# EAGLE library part SN74LVC3G34DCURG4 (library SamacSys_Parts)
Triple Buffer Gate Source: Datasheet <http://www.ti.com/lit/gpn/SN74LVC3G34>
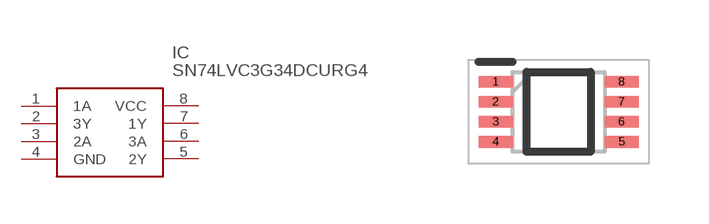
[diagram p74: symbol with the pads of SOP50P310X90-8N; footprint SOP50P310X90-8N]

Designator prefix IC

## SN74LVC3G34DCURG4 (DESCRIPTION: Triple Buffer Gate; HEIGHT: 0.9mm; MANUFACTURER_NAME: Texas Instruments; MANUFACTURER_PART_NUMBER: SN74LVC3G34DCURG4; MOUSER_PART_NUMBER: 595-S74LVC3G34DCURG4; MOUSER_PRICE-STOCK: https://www.mouser.co.uk/ProductDetail/Texas-Instruments/SN74LVC3G34DCURG4?qs=IUbkBnfnSQKa5HR50xW%252Bhg%3D%3D)  [SOP50P310X90-8N]
1  1A
2  3Y
3  2A
4  GND
5  2Y
6  3A
7  1Y
8  VCC

## Footprint SOP50P310X90-8N (pad centres in mm)
DCU (R-PDSO-G8)
smd 0.85 x 0.3: 1 -1.575,0.75; 2 -1.575,0.25; 3 -1.575,-0.25; 4 -1.575,-0.75; 5 1.575,-0.75; 6 1.575,-0.25; 7 1.575,0.25; 8 1.575,0.75